# Altium schematic symbol library mh.SchLib: 9 symbols
Pins are listed as number, name and electrical type; pins without a type are passive.

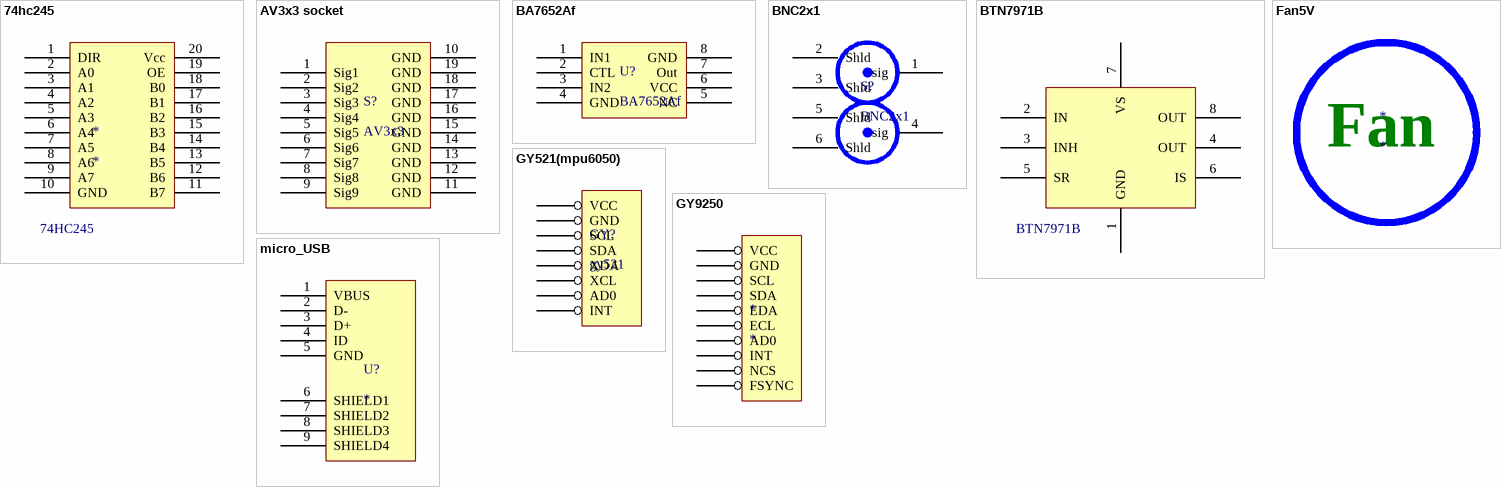
[diagram p0: symbols 74hc245 to micro_USB]

## 74hc245
designator *
footprint 74hc245
pins: 1 DIR, 2 A0, 3 A1, 4 A2, 5 A3, 6 A4, 7 A5, 8 A6, 9 A7, 10 GND, 11 B7, 12 B6, 13 B5, 14 B4, 15 B3, 16 B2, 17 B1, 18 B0, 19 OE, 20 Vcc
text: 74HC245

## AV3x3 socket
designator S?, comment AV3x3
footprint av3x3 socket; pin to pad 1>12 2>22 3>32 4>14 5>24 6>34 7>16 8>26 9>36 10>11 11>13 12>15 13>17 14>21 15>23 16>25 17>31 18>33 19>35
pins: 1 Sig1, 2 Sig2, 3 Sig3, 4 Sig4, 5 Sig5, 6 Sig6, 7 Sig7, 8 Sig8, 9 Sig9, 10 GND, 11 GND, 12 GND, 13 GND, 14 GND, 15 GND, 16 GND, 17 GND, 18 GND, 19 GND

## BA7652Af
designator U?
footprint so-8
pins: 1 IN1, 2 CTL, 3 IN2, 4 GND, 5 NC, 6 VCC, 7 Out, 8 GND

## BNC2x1
designator S?
footprint BNC2x1 (Footprint not found)
pins: 1 sig, 2 Shld, 3 Shld, 4 sig, 5 Shld, 6 Shld

## BTN7971B
designator BTN7971B  (value not drawn)
footprint BTN7971B
pins: 1 GND, 2 IN, 3 INH, 4 OUT, 5 SR, 6 IS, 7 VS, 8 OUT

## Fan5V
designator *
footprint fan_5v
text: Fan

## GY521(mpu6050)
designator GY?, comment gy521
footprint GY521
pins: 1 VCC, 2 GND, 3 SCL, 4 SDA, 5 XDA, 6 XCL, 7 AD0, 8 INT

## GY9250
designator *
pins: 1 VCC, 2 GND, 3 SCL, 4 SDA, 5 EDA, 6 ECL, 7 AD0, 8 INT, 9 NCS, 10 FSYNC

## micro_USB
designator U?
footprint micro_USB
pins: 1 VBUS, 2 D-, 3 D+, 4 ID, 5 GND, 6 SHIELD1, 7 SHIELD2, 8 SHIELD3, 9 SHIELD4